# EAGLE library part 623350235521 (library Board-to-Board (rev18a))
WR-PHD 1.27mm Dual SMT Pin Header H=1.80mm, 50 Pins=>Code : Con_BTB_PHD_1.27_2_623350235521 <http://katalog.we-online.de/media/thumbs2/eican/thb_Con_BTB_PHD_1.27_2_6233xx235521_pf2.jpg> Details see: http://katalog.we-online.de/en/em/623_3xx_235_521 Created 2014-06-04, Karrer Zheng 2014 (C) Würth Elektronik
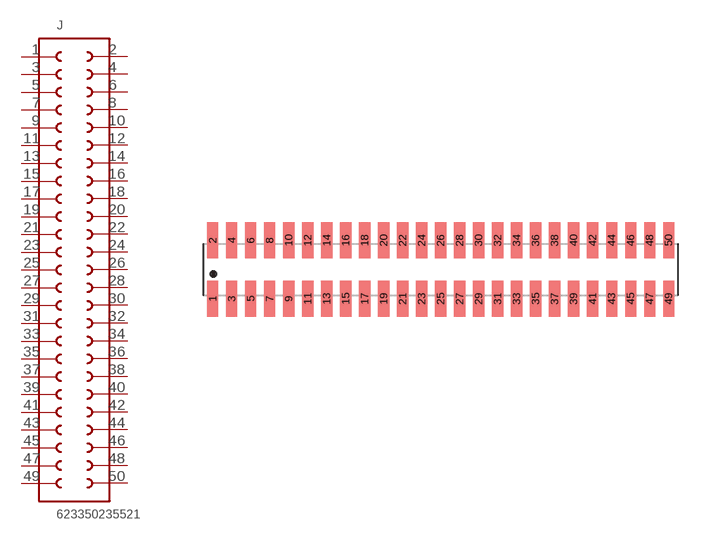
[diagram p285: symbol with the pads of 623350235521; footprint 623350235521]

Designator prefix J

## 623350235521  [623350235521]
1  1  pas
2  50  pas
3  2  pas
4  49  pas
5  3  pas
6  48  pas
7  4  pas
8  47  pas
9  5  pas
10  46  pas
11  6  pas
12  45  pas
13  7  pas
14  44  pas
15  8  pas
16  43  pas
17  9  pas
18  42  pas
19  10  pas
20  41  pas
21  11  pas
22  40  pas
23  12  pas
24  39  pas
25  13  pas
26  38  pas
27  14  pas
28  37  pas
29  15  pas
30  36  pas
31  16  pas
32  35  pas
33  17  pas
34  34  pas
35  18  pas
36  33  pas
37  19  pas
38  32  pas
39  20  pas
40  31  pas
41  21  pas
42  30  pas
43  22  pas
44  29  pas
45  23  pas
46  28  pas
47  24  pas
48  27  pas
49  25  pas
50  26  pas

## Footprint 623350235521 (pad centres in mm)
WR-PHD 1.27mm Dual SMT Pin Header H=1.80mm, 50 Pins
smd 0.74 x 2.4: 1 -15.24,-1.95; 2 -15.24,1.95; 3 -13.97,-1.95; 4 -13.97,1.95; 5 -12.7,-1.95; 6 -12.7,1.95; 7 -11.43,-1.95; 8 -11.43,1.95; 9 -10.16,-1.95; 10 -10.16,1.95; 11 -8.89,-1.95; 12 -8.89,1.95; 13 -7.62,-1.95; 14 -7.62,1.95; 15 -6.35,-1.95; 16 -6.35,1.95; 17 -5.08,-1.95; 18 -5.08,1.95; 19 -3.81,-1.95; 20 -3.81,1.95; 21 -2.54,-1.95; 22 -2.54,1.95; 23 -1.27,-1.95; 24 -1.27,1.95; 25 0,-1.95; 26 0,1.95; 27 1.27,-1.95; 28 1.27,1.95; 29 2.54,-1.95; 30 2.54,1.95; 31 3.81,-1.95; 32 3.81,1.95; 33 5.08,-1.95; 34 5.08,1.95; 35 6.35,-1.95; 36 6.35,1.95; 37 7.62,-1.95; 38 7.62,1.95; 39 8.89,-1.95; 40 8.89,1.95; 41 10.16,-1.95; 42 10.16,1.95; 43 11.43,-1.95; 44 11.43,1.95; 45 12.7,-1.95; 46 12.7,1.95; 47 13.97,-1.95; 48 13.97,1.95; 49 15.24,-1.95; 50 15.24,1.95